# Altium schematic symbol library Schlib1.SchLib: 2 symbols
Pins are listed as number, name and electrical type; pins without a type are passive.

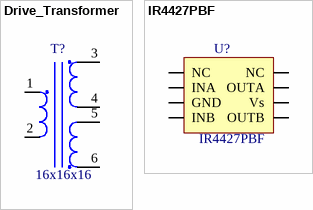
[diagram p0: symbols Drive_Transformer to IR4427PBF]

## Drive_Transformer
designator T?, comment 16x16x16
pins: 1, 2, 3, 4, 5, 6

## IR4427PBF
designator U?
pins: 1 NC, 2 INA, 3 GND, 4 INB, 5 OUTB, 6 Vs, 7 OUTA, 8 NC